# EAGLE library part 1X16 (library connectors)
KK 156 HEADER Source: http://www.molex.com/pdm_docs/sd/026604100_sd.pdf
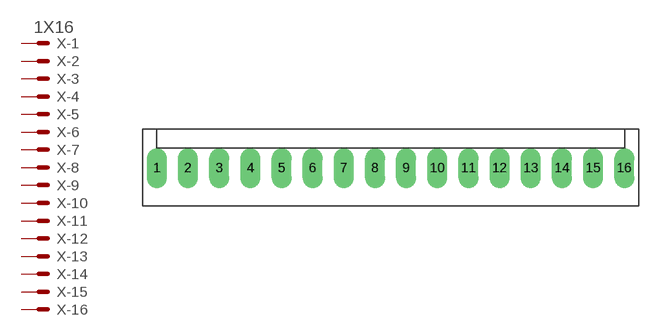
[diagram p12: symbol with the pads of KK-156-16; footprint KK-156-16]

Designator prefix X; gates -1=MV -2=M -3=M -4=M -5=M -6=M -7=M -8=M -9=M -10=M -11=M -12=M -13=M -14=M -15=M -16=M

## 1X16 (MF: MOLEX; OC_FARNELL: unknown; OC_NEWARK: unknown)  [KK-156-16]
1  -1:S  pas
2  -2:S  pas
3  -3:S  pas
4  -4:S  pas
5  -5:S  pas
6  -6:S  pas
7  -7:S  pas
8  -8:S  pas
9  -9:S  pas
10  -10:S  pas
11  -11:S  pas
12  -12:S  pas
13  -13:S  pas
14  -14:S  pas
15  -15:S  pas
16  -16:S  pas

## Footprint KK-156-16 (pad centres in mm)
KK® 396 Header, Vertical, Friction Lock, 16 Circuits, Tin (Sn) Plating Datasheet <http://www.molex.com/pdm_docs/sd/026604160_sd.pdf>
drill 1.7 pad 2.184 long: 1 -29.7,0; 2 -25.74,0; 3 -21.78,0; 4 -17.82,0; 5 -13.86,0; 6 -9.9,0; 7 -5.94,0; 8 -1.98,0; 9 1.98,0; 10 5.94,0; 11 9.9,0; 12 13.86,0; 13 17.82,0; 14 21.78,0; 15 25.74,0; 16 29.7,0